# Altium schematic symbol library inductors.SchLib: 2 symbols
Pins are listed as number, name and electrical type; pins without a type are passive.

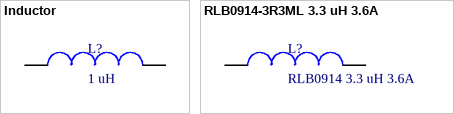
[diagram p0: symbols Inductor to RLB0914-3R3ML 3.3 uH 3.6A]

## Inductor
designator L?, comment 1 uH
Inductor
pins: 1, 2

## RLB0914-3R3ML 3.3 uH 3.6A
designator L?, comment RLB0914 3.3 uH 3.6A
Inductor
footprint RLB0914 (Radial Inductor)
footprint RLB0914 hor (Horizontal Radial Inductor)
pins: 1, 2